# Altium integrated library Analog Devices Operational Amplifiers.IntLib: 2102 symbols (part 67 of 70)
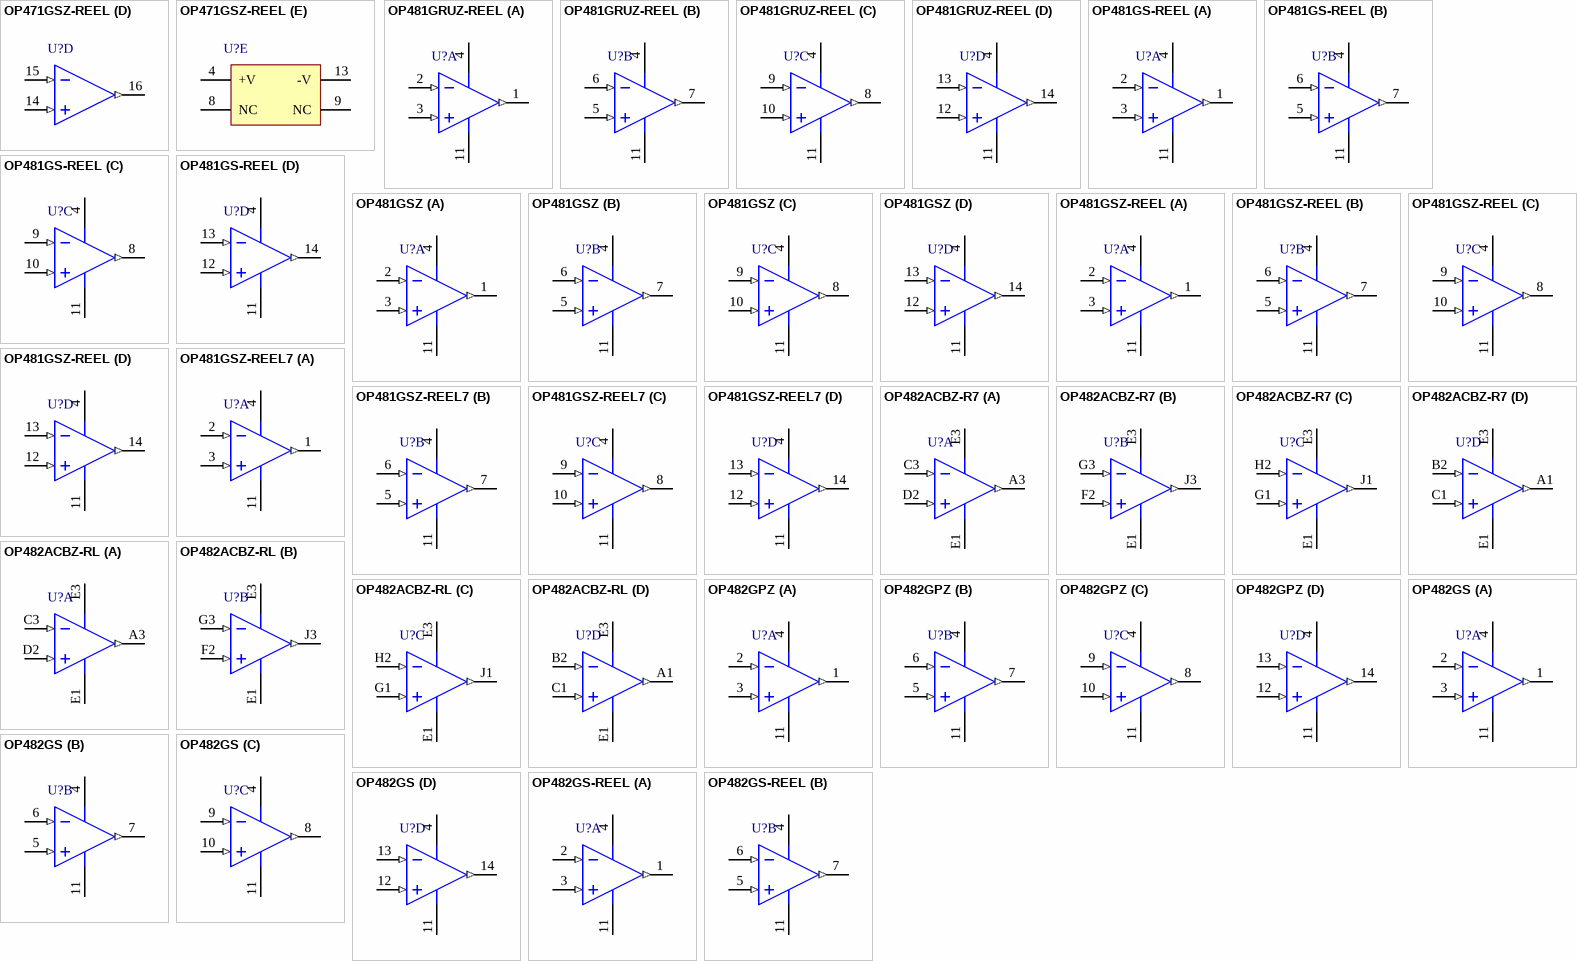
[diagram p180: symbols OP471GSZ-REEL to OP482GS-REEL]

## OP482GPZ
designator U?
Quad Channel Wide Bandwidth Operational Amplifier, 4 MHz BW, 9 V/us SR, Industrial, 14-pin DIP (N-14), Tube; Generic Part Number: OP482; Manufacturer: Analog Devices; PartNumber: OP482GPZ; Amplifiers Per Package: 4; Input Bias Current: 3pA; Input Offset Voltage: 200uV; Iq/Amp: 250uA; Slew Rate: 9V/us; Small Signal Bandwidth: 4MHz; V Span Max: 36V; V Span Min: 9V; DatasheetVersion: 081709-B; PackageVersion: 070606-A; PackageReference: N-14; PackageDescription: 14-Pin Plastic Dual In-Line Package, Row spacing 7.62 mm, Pitch 2.54 mm; Supplier 1: Digi-Key; Supplier Part Number 1: OP482GPZ-ND; Supplier 2: Farnell; Supplier Part Number 2: 1438690; Supplier 3: Newark; Supplier Part Number 3: 19M8988; Packing: Tube; Mounting Technology: Through Hole; Code_JEDEC: MS-001; ComponentLink1Description: Manufacturer URL; ComponentLink1URL: http://www.analog.com/en/index.html; ComponentLink2Description: Datasheet; ComponentLink2URL: http://www.analog.com/static/imported-files/data_sheets/OP282_OP482.pdf; ComponentLink3Description: Package Specification; ComponentLink3URL: http://www.analog.com/static/imported-files/packages/N_14.pdf
footprint ADI-N-14 (DIP, 14-Leads, Body 19.18x6.605mm, Pitch 2.54mm)
pins on every part: 4 +V (power), 11 -V (power)
part A pins: 1 OUT A (out), 2 -IN A (in), 3 +IN A (in)
part B pins: 5 +IN B (in), 6 -IN B (in), 7 OUT B (out)
part C pins: 8 OUT C (out), 9 -IN C (in), 10 +IN C (in)
part D pins: 12 +IN D (in), 13 -IN D (in), 14 OUT D (out)

## OP482GS
designator U?
Quad Channel Wide Bandwidth Operational Amplifier, 4 MHz BW, 9 V/us SR, Industrial, 14-pin SOIC (R-14), Tube; Generic Part Number: OP482; Manufacturer: Analog Devices; PartNumber: OP482GS; Amplifiers Per Package: 4; Input Bias Current: 3pA; Input Offset Voltage: 200uV; Iq/Amp: 250uA; Slew Rate: 9V/us; Small Signal Bandwidth: 4MHz; V Span Max: 36V; V Span Min: 9V; DatasheetVersion: 081709-B; PackageVersion: 060606-A; PackageReference: R-14; PackageDescription: 14-Pin Standard Small Outline Package, Body 8.65 x 3.9 mm, Pitch 1.27 mm; Supplier 1: Digi-Key; Supplier Part Number 1: OP482GS-ND; Packing: Tube; Mounting Technology: Surface Mount; Code_JEDEC: MS-012-AB; ComponentLink1Description: Manufacturer URL; ComponentLink1URL: http://www.analog.com/en/index.html; ComponentLink2Description: Datasheet; ComponentLink2URL: http://www.analog.com/static/imported-files/data_sheets/OP282_OP482.pdf; ComponentLink3Description: Package Specification; ComponentLink3URL: http://www.analog.com/static/imported-files/packages/PKG_PDF/SOIC_Narrow%20(R)/R_14.pdf
footprint ADI-R-14_N (SOIC, 14-Leads, Body 8.65x3.9mm, Pitch 1.27mm, IPC Medium Density)
footprint ADI-R-14_L (SOIC, 14-Leads, Body 8.65x3.9mm, Pitch 1.27mm, IPC High Density)
footprint ADI-R-14_M (SOIC, 14-Leads, Body 8.65x3.9mm, Pitch 1.27mm, IPC Low Density)
pins on every part: 4 +V (power), 11 -V (power)
part A pins: 1 OUT A (out), 2 -IN A (in), 3 +IN A (in)
part B pins: 5 +IN B (in), 6 -IN B (in), 7 OUT B (out)
part C pins: 8 OUT C (out), 9 -IN C (in), 10 +IN C (in)
part D pins: 12 +IN D (in), 13 -IN D (in), 14 OUT D (out)

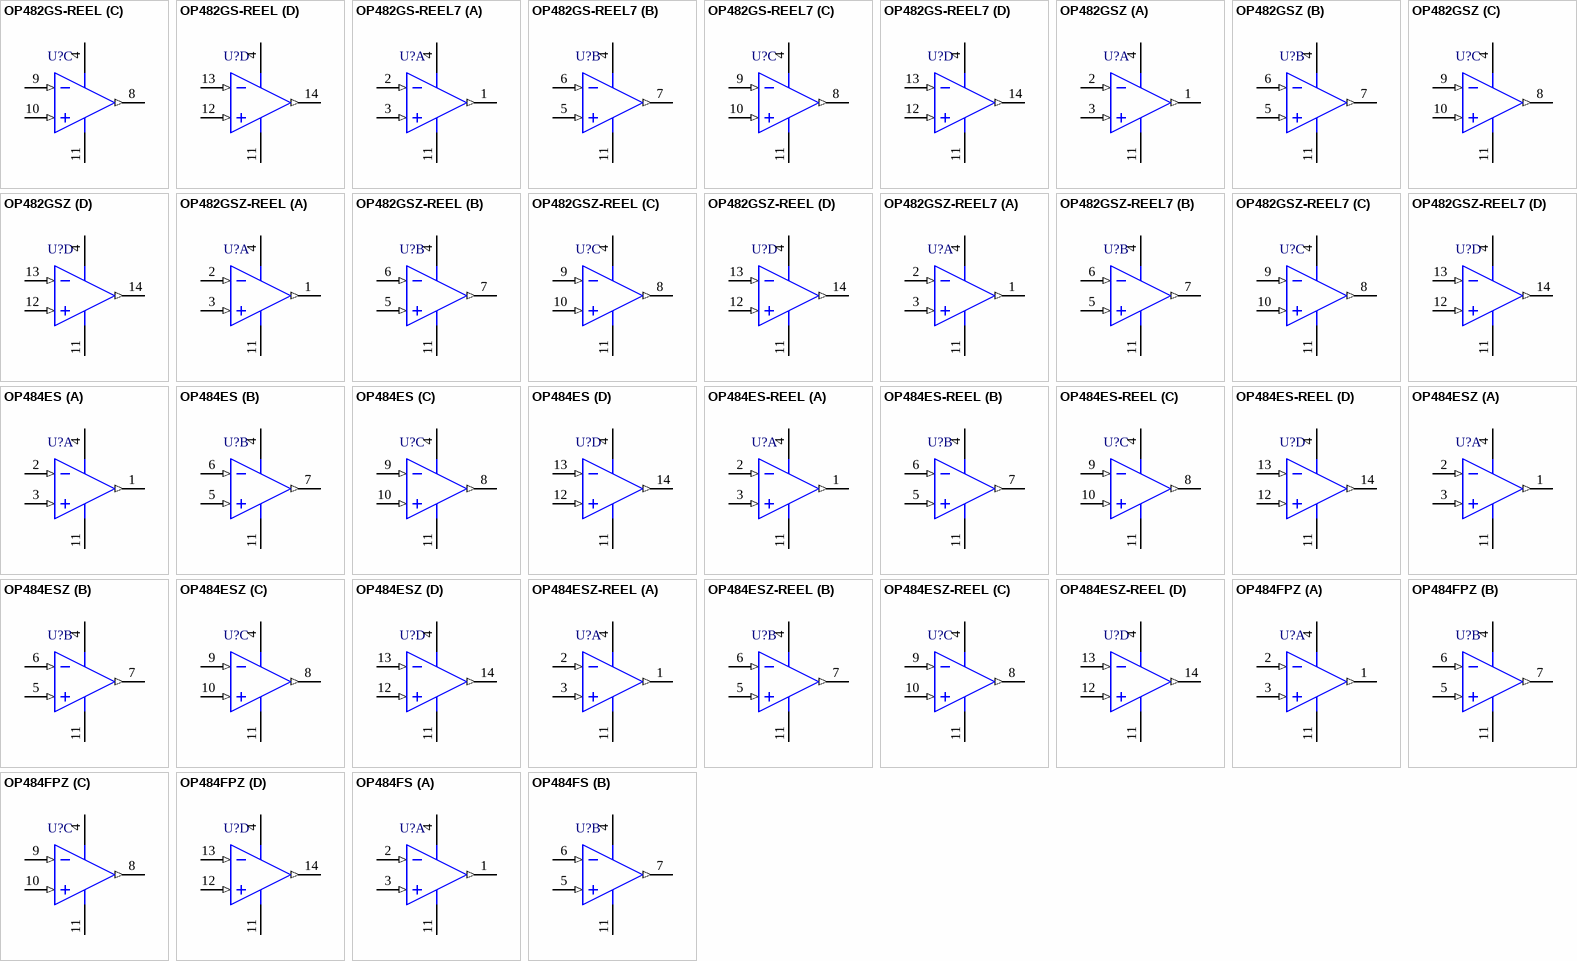
[diagram p106: symbols OP482GS-REEL to OP484FS]

## OP482GS-REEL
designator U?
Quad Channel Wide Bandwidth Operational Amplifier, 4 MHz BW, 9 V/us SR, Industrial, 14-pin SOIC (R-14), Reel; Generic Part Number: OP482; Manufacturer: Analog Devices; PartNumber: OP482GS-REEL; Amplifiers Per Package: 4; Input Bias Current: 3pA; Input Offset Voltage: 200uV; Iq/Amp: 250uA; Slew Rate: 9V/us; Small Signal Bandwidth: 4MHz; V Span Max: 36V; V Span Min: 9V; DatasheetVersion: 081709-B; PackageVersion: 060606-A; PackageReference: R-14; PackageDescription: 14-Pin Standard Small Outline Package, Body 8.65 x 3.9 mm, Pitch 1.27 mm; Supplier 1: Digi-Key; Supplier Part Number 1: OP482GS-REEL-ND; Supplier 2: Newark; Supplier Part Number 2: 13B4666; Packing: Reel; Mounting Technology: Surface Mount; Code_JEDEC: MS-012-AB; ComponentLink1Description: Manufacturer URL; ComponentLink1URL: http://www.analog.com/en/index.html; ComponentLink2Description: Datasheet; ComponentLink2URL: http://www.analog.com/static/imported-files/data_sheets/OP282_OP482.pdf; ComponentLink3Description: Package Specification; ComponentLink3URL: http://www.analog.com/static/imported-files/packages/PKG_PDF/SOIC_Narrow%20(R)/R_14.pdf
footprint ADI-R-14_N (SOIC, 14-Leads, Body 8.65x3.9mm, Pitch 1.27mm, IPC Medium Density)
footprint ADI-R-14_L (SOIC, 14-Leads, Body 8.65x3.9mm, Pitch 1.27mm, IPC High Density)
footprint ADI-R-14_M (SOIC, 14-Leads, Body 8.65x3.9mm, Pitch 1.27mm, IPC Low Density)
pins on every part: 4 +V (power), 11 -V (power)
part A pins: 1 OUT A (out), 2 -IN A (in), 3 +IN A (in)
part B pins: 5 +IN B (in), 6 -IN B (in), 7 OUT B (out)
part C pins: 8 OUT C (out), 9 -IN C (in), 10 +IN C (in)
part D pins: 12 +IN D (in), 13 -IN D (in), 14 OUT D (out)

## OP482GS-REEL7
designator U?
Quad Channel Wide Bandwidth Operational Amplifier, 4 MHz BW, 9 V/us SR, Industrial, 14-pin SOIC (R-14), Reel; Generic Part Number: OP482; Manufacturer: Analog Devices; PartNumber: OP482GS-REEL7; Amplifiers Per Package: 4; Input Bias Current: 3pA; Input Offset Voltage: 200uV; Iq/Amp: 250uA; Slew Rate: 9V/us; Small Signal Bandwidth: 4MHz; V Span Max: 36V; V Span Min: 9V; DatasheetVersion: 081709-B; PackageVersion: 060606-A; PackageReference: R-14; PackageDescription: 14-Pin Standard Small Outline Package, Body 8.65 x 3.9 mm, Pitch 1.27 mm; Supplier 1: Digi-Key; Supplier Part Number 1: OP482GS-REEL7-ND; Supplier 2: Newark; Supplier Part Number 2: 02H2607; Packing: Reel; Mounting Technology: Surface Mount; Code_JEDEC: MS-012-AB; ComponentLink1Description: Manufacturer URL; ComponentLink1URL: http://www.analog.com/en/index.html; ComponentLink2Description: Datasheet; ComponentLink2URL: http://www.analog.com/static/imported-files/data_sheets/OP282_OP482.pdf; ComponentLink3Description: Package Specification; ComponentLink3URL: http://www.analog.com/static/imported-files/packages/PKG_PDF/SOIC_Narrow%20(R)/R_14.pdf
footprint ADI-R-14_N (SOIC, 14-Leads, Body 8.65x3.9mm, Pitch 1.27mm, IPC Medium Density)
footprint ADI-R-14_L (SOIC, 14-Leads, Body 8.65x3.9mm, Pitch 1.27mm, IPC High Density)
footprint ADI-R-14_M (SOIC, 14-Leads, Body 8.65x3.9mm, Pitch 1.27mm, IPC Low Density)
pins on every part: 4 +V (power), 11 -V (power)
part A pins: 1 OUT A (out), 2 -IN A (in), 3 +IN A (in)
part B pins: 5 +IN B (in), 6 -IN B (in), 7 OUT B (out)
part C pins: 8 OUT C (out), 9 -IN C (in), 10 +IN C (in)
part D pins: 12 +IN D (in), 13 -IN D (in), 14 OUT D (out)

## OP482GSZ
designator U?
Quad Channel Wide Bandwidth Operational Amplifier, 4 MHz BW, 9 V/us SR, Industrial, 14-pin SOIC (R-14), Tube; Generic Part Number: OP482; Manufacturer: Analog Devices; PartNumber: OP482GSZ; Amplifiers Per Package: 4; Input Bias Current: 3pA; Input Offset Voltage: 200uV; Iq/Amp: 250uA; Slew Rate: 9V/us; Small Signal Bandwidth: 4MHz; V Span Max: 36V; V Span Min: 9V; DatasheetVersion: 081709-B; PackageVersion: 060606-A; PackageReference: R-14; PackageDescription: 14-Pin Standard Small Outline Package, Body 8.65 x 3.9 mm, Pitch 1.27 mm; Supplier 1: Digi-Key; Supplier Part Number 1: OP482GSZ-ND; Supplier 2: Farnell; Supplier Part Number 2: 1661006; Supplier 3: Newark; Supplier Part Number 3: 88H0669; Packing: Tube; Mounting Technology: Surface Mount; Code_JEDEC: MS-012-AB; ComponentLink1Description: Manufacturer URL; ComponentLink1URL: http://www.analog.com/en/index.html; ComponentLink2Description: Datasheet; ComponentLink2URL: http://www.analog.com/static/imported-files/data_sheets/OP282_OP482.pdf; ComponentLink3Description: Package Specification; ComponentLink3URL: http://www.analog.com/static/imported-files/packages/PKG_PDF/SOIC_Narrow%20(R)/R_14.pdf
footprint ADI-R-14_N (SOIC, 14-Leads, Body 8.65x3.9mm, Pitch 1.27mm, IPC Medium Density)
footprint ADI-R-14_L (SOIC, 14-Leads, Body 8.65x3.9mm, Pitch 1.27mm, IPC High Density)
footprint ADI-R-14_M (SOIC, 14-Leads, Body 8.65x3.9mm, Pitch 1.27mm, IPC Low Density)
pins on every part: 4 +V (power), 11 -V (power)
part A pins: 1 OUT A (out), 2 -IN A (in), 3 +IN A (in)
part B pins: 5 +IN B (in), 6 -IN B (in), 7 OUT B (out)
part C pins: 8 OUT C (out), 9 -IN C (in), 10 +IN C (in)
part D pins: 12 +IN D (in), 13 -IN D (in), 14 OUT D (out)

## OP482GSZ-REEL
designator U?
Quad Channel Wide Bandwidth Operational Amplifier, 4 MHz BW, 9 V/us SR, Industrial, 14-pin SOIC (R-14), Reel; Generic Part Number: OP482; Manufacturer: Analog Devices; PartNumber: OP482GSZ-REEL; Amplifiers Per Package: 4; Input Bias Current: 3pA; Input Offset Voltage: 200uV; Iq/Amp: 250uA; Slew Rate: 9V/us; Small Signal Bandwidth: 4MHz; V Span Max: 36V; V Span Min: 9V; DatasheetVersion: 081709-B; PackageVersion: 060606-A; PackageReference: R-14; PackageDescription: 14-Pin Standard Small Outline Package, Body 8.65 x 3.9 mm, Pitch 1.27 mm; Supplier 1: Digi-Key; Supplier Part Number 1: OP482GSZ-REELTR-ND; Supplier 2: Digi-Key; Supplier Part Number 2: OP482GSZ-REELCT-ND; Supplier 3: Digi-Key; Supplier Part Number 3: OP482GSZ-REELDKR-ND; Supplier 4: Newark; Supplier Part Number 4: 88H0670; Packing: Reel; Mounting Technology: Surface Mount; Code_JEDEC: MS-012-AB; ComponentLink1Description: Manufacturer URL; ComponentLink1URL: http://www.analog.com/en/index.html; ComponentLink2Description: Datasheet; ComponentLink2URL: http://www.analog.com/static/imported-files/data_sheets/OP282_OP482.pdf; ComponentLink3Description: Package Specification; ComponentLink3URL: http://www.analog.com/static/imported-files/packages/PKG_PDF/SOIC_Narrow%20(R)/R_14.pdf
footprint ADI-R-14_N (SOIC, 14-Leads, Body 8.65x3.9mm, Pitch 1.27mm, IPC Medium Density)
footprint ADI-R-14_L (SOIC, 14-Leads, Body 8.65x3.9mm, Pitch 1.27mm, IPC High Density)
footprint ADI-R-14_M (SOIC, 14-Leads, Body 8.65x3.9mm, Pitch 1.27mm, IPC Low Density)
pins on every part: 4 +V (power), 11 -V (power)
part A pins: 1 OUT A (out), 2 -IN A (in), 3 +IN A (in)
part B pins: 5 +IN B (in), 6 -IN B (in), 7 OUT B (out)
part C pins: 8 OUT C (out), 9 -IN C (in), 10 +IN C (in)
part D pins: 12 +IN D (in), 13 -IN D (in), 14 OUT D (out)

## OP482GSZ-REEL7
designator U?
Quad Channel Wide Bandwidth Operational Amplifier, 4 MHz BW, 9 V/us SR, Industrial, 14-pin SOIC (R-14), Reel; Generic Part Number: OP482; Manufacturer: Analog Devices; PartNumber: OP482GSZ-REEL7; Amplifiers Per Package: 4; Input Bias Current: 3pA; Input Offset Voltage: 200uV; Iq/Amp: 250uA; Slew Rate: 9V/us; Small Signal Bandwidth: 4MHz; V Span Max: 36V; V Span Min: 9V; DatasheetVersion: 081709-B; PackageVersion: 060606-A; PackageReference: R-14; PackageDescription: 14-Pin Standard Small Outline Package, Body 8.65 x 3.9 mm, Pitch 1.27 mm; Supplier 1: Digi-Key; Supplier Part Number 1: OP482GSZ-REEL7TR-ND; Supplier 2: Digi-Key; Supplier Part Number 2: OP482GSZ-REEL7CT-ND; Supplier 3: Digi-Key; Supplier Part Number 3: OP482GSZ-REEL7DKR-ND; Supplier 4: Newark; Supplier Part Number 4: 88H0671; Packing: Reel; Mounting Technology: Surface Mount; Code_JEDEC: MS-012-AB; ComponentLink1Description: Manufacturer URL; ComponentLink1URL: http://www.analog.com/en/index.html; ComponentLink2Description: Datasheet; ComponentLink2URL: http://www.analog.com/static/imported-files/data_sheets/OP282_OP482.pdf; ComponentLink3Description: Package Specification; ComponentLink3URL: http://www.analog.com/static/imported-files/packages/PKG_PDF/SOIC_Narrow%20(R)/R_14.pdf
footprint ADI-R-14_N (SOIC, 14-Leads, Body 8.65x3.9mm, Pitch 1.27mm, IPC Medium Density)
footprint ADI-R-14_L (SOIC, 14-Leads, Body 8.65x3.9mm, Pitch 1.27mm, IPC High Density)
footprint ADI-R-14_M (SOIC, 14-Leads, Body 8.65x3.9mm, Pitch 1.27mm, IPC Low Density)
pins on every part: 4 +V (power), 11 -V (power)
part A pins: 1 OUT A (out), 2 -IN A (in), 3 +IN A (in)
part B pins: 5 +IN B (in), 6 -IN B (in), 7 OUT B (out)
part C pins: 8 OUT C (out), 9 -IN C (in), 10 +IN C (in)
part D pins: 12 +IN D (in), 13 -IN D (in), 14 OUT D (out)

## OP484ES
designator U?
Quad Channel Rail-to-Rail Operational Amplifier, 4.25 MHz BW, 4 V/us SR, Industrial, 14-pin SOIC (R-14),Tube; Generic Part Number: OP484; Manufacturer: Analog Devices; PartNumber: OP484ES; Amplifiers Per Package: 4; Input Bias Current: 80nA; Input Offset Voltage: 250uV; Iq/Amp: 2mA; Slew Rate: 4V/us; V Span Max: 36V; V Span Min: 3V; DatasheetVersion: Rev. J; PackageVersion: 060606-A; PackageReference: R-14; PackageDescription: 14-Pin Standard Small Outline Package, Body 8.65 x 3.9 mm, Pitch 1.27 mm; Supplier 1: Digi-Key; Supplier Part Number 1: OP484ES-ND; Supplier 2: Newark; Supplier Part Number 2: 52F2080; Small Signal Bandwidth: 4.25MHz; Mounting Technology: Surface Mount; Code_JEDEC: MS-012-AB; ComponentLink1Description: Manufacturer URL; ComponentLink1URL: http://www.analog.com/en/index.html; ComponentLink2Description: Datasheet; ComponentLink2URL: http://www.analog.com/static/imported-files/data_sheets/OP184_284_484.pdf; ComponentLink3Description: Package Specification; ComponentLink3URL: http://www.analog.com/static/imported-files/packages/PKG_PDF/SOIC_Narrow%20(R)/R_14.pdf
footprint ADI-R-14_N (SOIC, 14-Leads, Body 8.65x3.9mm, Pitch 1.27mm, IPC Medium Density)
footprint ADI-R-14_L (SOIC, 14-Leads, Body 8.65x3.9mm, Pitch 1.27mm, IPC High Density)
footprint ADI-R-14_M (SOIC, 14-Leads, Body 8.65x3.9mm, Pitch 1.27mm, IPC Low Density)
pins on every part: 4 +V (power), 11 -V (power)
part A pins: 1 OUT A (out), 2 -IN A (in), 3 +IN A (in)
part B pins: 5 +IN B (in), 6 -IN B (in), 7 OUT B (out)
part C pins: 8 OUT C (out), 9 -IN C (in), 10 +IN C (in)
part D pins: 12 +IN D (in), 13 -IN D (in), 14 OUT D (out)

## OP484ES-REEL
designator U?
Quad Channel Rail-to-Rail Operational Amplifier, 4.25 MHz BW, 4 V/us SR, Industrial, 14-pin SOIC (R-14), Reel; Generic Part Number: OP484; Manufacturer: Analog Devices; PartNumber: OP484ES-REEL; Amplifiers Per Package: 4; Input Bias Current: 80nA; Input Offset Voltage: 250uV; Iq/Amp: 2mA; Slew Rate: 4V/us; V Span Max: 36V; V Span Min: 3V; DatasheetVersion: Rev. J; PackageVersion: 060606-A; PackageReference: R-14; PackageDescription: 14-Pin Standard Small Outline Package, Body 8.65 x 3.9 mm, Pitch 1.27 mm; Supplier 1: Digi-Key; Supplier Part Number 1: OP484ES-REEL-ND; Supplier 2: Newark; Supplier Part Number 2: 13B4667; Small Signal Bandwidth: 4.25MHz; Mounting Technology: Surface Mount; Code_JEDEC: MS-012-AB; ComponentLink1Description: Manufacturer URL; ComponentLink1URL: http://www.analog.com/en/index.html; ComponentLink2Description: Datasheet; ComponentLink2URL: http://www.analog.com/static/imported-files/data_sheets/OP184_284_484.pdf; ComponentLink3Description: Package Specification; ComponentLink3URL: http://www.analog.com/static/imported-files/packages/PKG_PDF/SOIC_Narrow%20(R)/R_14.pdf
footprint ADI-R-14_N (SOIC, 14-Leads, Body 8.65x3.9mm, Pitch 1.27mm, IPC Medium Density)
footprint ADI-R-14_L (SOIC, 14-Leads, Body 8.65x3.9mm, Pitch 1.27mm, IPC High Density)
footprint ADI-R-14_M (SOIC, 14-Leads, Body 8.65x3.9mm, Pitch 1.27mm, IPC Low Density)
pins on every part: 4 +V (power), 11 -V (power)
part A pins: 1 OUT A (out), 2 -IN A (in), 3 +IN A (in)
part B pins: 5 +IN B (in), 6 -IN B (in), 7 OUT B (out)
part C pins: 8 OUT C (out), 9 -IN C (in), 10 +IN C (in)
part D pins: 12 +IN D (in), 13 -IN D (in), 14 OUT D (out)

## OP484ESZ
designator U?
Quad Channel Rail-to-Rail Operational Amplifier, 4.25 MHz BW, 4 V/us SR, Industrial, 14-pin SOIC (R-14), Tube; Generic Part Number: OP484; Manufacturer: Analog Devices; PartNumber: OP484ESZ; Amplifiers Per Package: 4; Input Bias Current: 80nA; Input Offset Voltage: 250uV; Iq/Amp: 2mA; Slew Rate: 4V/us; V Span Max: 36V; V Span Min: 3V; DatasheetVersion: Rev. J; PackageVersion: 060606-A; PackageReference: R-14; PackageDescription: 14-Pin Standard Small Outline Package, Body 8.65 x 3.9 mm, Pitch 1.27 mm; Supplier 1: Digi-Key; Supplier Part Number 1: OP484ESZ-ND; Supplier 2: Farnell; Supplier Part Number 2: 1661007; Supplier 3: Newark; Supplier Part Number 3: 19M8989; Small Signal Bandwidth: 4.25MHz; Mounting Technology: Surface Mount; Code_JEDEC: MS-012-AB; ComponentLink1Description: Manufacturer URL; ComponentLink1URL: http://www.analog.com/en/index.html; ComponentLink2Description: Datasheet; ComponentLink2URL: http://www.analog.com/static/imported-files/data_sheets/OP184_284_484.pdf; ComponentLink3Description: Package Specification; ComponentLink3URL: http://www.analog.com/static/imported-files/packages/PKG_PDF/SOIC_Narrow%20(R)/R_14.pdf
footprint ADI-R-14_N (SOIC, 14-Leads, Body 8.65x3.9mm, Pitch 1.27mm, IPC Medium Density)
footprint ADI-R-14_L (SOIC, 14-Leads, Body 8.65x3.9mm, Pitch 1.27mm, IPC High Density)
footprint ADI-R-14_M (SOIC, 14-Leads, Body 8.65x3.9mm, Pitch 1.27mm, IPC Low Density)
pins on every part: 4 +V (power), 11 -V (power)
part A pins: 1 OUT A (out), 2 -IN A (in), 3 +IN A (in)
part B pins: 5 +IN B (in), 6 -IN B (in), 7 OUT B (out)
part C pins: 8 OUT C (out), 9 -IN C (in), 10 +IN C (in)
part D pins: 12 +IN D (in), 13 -IN D (in), 14 OUT D (out)

## OP484ESZ-REEL
designator U?
Quad Channel Rail-to-Rail Operational Amplifier, 4.25 MHz BW, 4 V/us SR, Industrial, 14-pin SOIC (R-14), Reel; Generic Part Number: OP484; Manufacturer: Analog Devices; PartNumber: OP484ESZ-REEL; Amplifiers Per Package: 4; Input Bias Current: 80nA; Input Offset Voltage: 250uV; Iq/Amp: 2mA; Slew Rate: 4V/us; V Span Max: 36V; V Span Min: 3V; DatasheetVersion: Rev. J; PackageVersion: 060606-A; PackageReference: R-14; PackageDescription: 14-Pin Standard Small Outline Package, Body 8.65 x 3.9 mm, Pitch 1.27 mm; Supplier 1: Digi-Key; Supplier Part Number 1: OP484ESZ-REEL-ND; Supplier 2: Newark; Supplier Part Number 2: 88H0673; Small Signal Bandwidth: 4.25MHz; Mounting Technology: Surface Mount; Code_JEDEC: MS-012-AB; ComponentLink1Description: Manufacturer URL; ComponentLink1URL: http://www.analog.com/en/index.html; ComponentLink2Description: Datasheet; ComponentLink2URL: http://www.analog.com/static/imported-files/data_sheets/OP184_284_484.pdf; ComponentLink3Description: Package Specification; ComponentLink3URL: http://www.analog.com/static/imported-files/packages/PKG_PDF/SOIC_Narrow%20(R)/R_14.pdf
footprint ADI-R-14_N (SOIC, 14-Leads, Body 8.65x3.9mm, Pitch 1.27mm, IPC Medium Density)
footprint ADI-R-14_L (SOIC, 14-Leads, Body 8.65x3.9mm, Pitch 1.27mm, IPC High Density)
footprint ADI-R-14_M (SOIC, 14-Leads, Body 8.65x3.9mm, Pitch 1.27mm, IPC Low Density)
pins on every part: 4 +V (power), 11 -V (power)
part A pins: 1 OUT A (out), 2 -IN A (in), 3 +IN A (in)
part B pins: 5 +IN B (in), 6 -IN B (in), 7 OUT B (out)
part C pins: 8 OUT C (out), 9 -IN C (in), 10 +IN C (in)
part D pins: 12 +IN D (in), 13 -IN D (in), 14 OUT D (out)

## OP484FPZ
designator U?
Quad Channel Rail-to-Rail Operational Amplifier, 4.25 MHz BW, 4 V/us SR, Industrial, 14-pin DIP (N-14), Tube; Generic Part Number: OP484; Manufacturer: Analog Devices; PartNumber: OP484FPZ; Amplifiers Per Package: 4; Input Bias Current: 80nA; Input Offset Voltage: 250uV; Iq/Amp: 2mA; Slew Rate: 4V/us; V Span Max: 36V; V Span Min: 3V; DatasheetVersion: Rev. J; PackageVersion: 070606-A; PackageReference: N-14; PackageDescription: 14-Pin Plastic Dual In-Line Package, Row spacing 7.62 mm, Pitch 2.54 mm; Supplier 1: Digi-Key; Supplier Part Number 1: OP484FPZ-ND; Supplier 2: Farnell; Supplier Part Number 2: 1438692; Supplier 3: Newark; Supplier Part Number 3: 59K8936; Small Signal Bandwidth: 4.25MHz; Mounting Technology: Through Hole; Code_JEDEC: MS-001; ComponentLink1Description: Manufacturer URL; ComponentLink1URL: http://www.analog.com/en/index.html; ComponentLink2Description: Datasheet; ComponentLink2URL: http://www.analog.com/static/imported-files/data_sheets/OP184_284_484.pdf; ComponentLink3Description: Package Specification; ComponentLink3URL: http://www.analog.com/static/imported-files/packages/N_14.pdf
footprint ADI-N-14 (DIP, 14-Leads, Body 19.18x6.605mm, Pitch 2.54mm)
pins on every part: 4 +V (power), 11 -V (power)
part A pins: 1 OUT A (out), 2 -IN A (in), 3 +IN A (in)
part B pins: 5 +IN B (in), 6 -IN B (in), 7 OUT B (out)
part C pins: 8 OUT C (out), 9 -IN C (in), 10 +IN C (in)
part D pins: 12 +IN D (in), 13 -IN D (in), 14 OUT D (out)

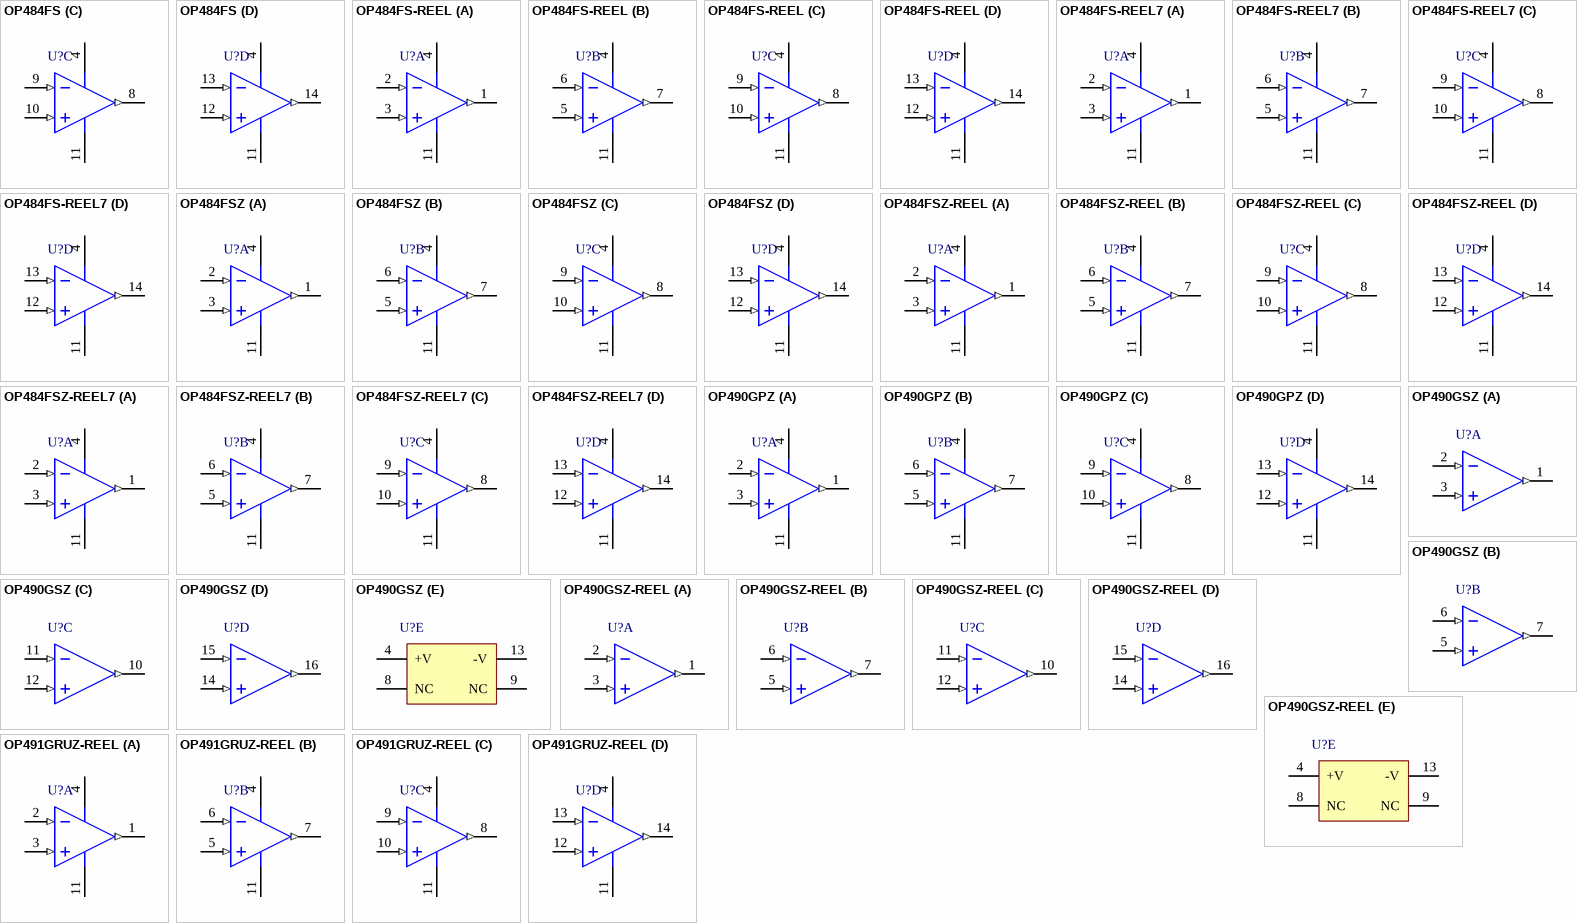
[diagram p107: symbols OP484FS to OP491GRUZ-REEL]

## OP484FS
designator U?
Quad Channel Rail-to-Rail Operational Amplifier, 4.25 MHz BW, 4 V/us SR, Industrial, 14-pin SOIC (R-14), Tube; Generic Part Number: OP484; Manufacturer: Analog Devices; PartNumber: OP484FS; Amplifiers Per Package: 4; Input Bias Current: 80nA; Input Offset Voltage: 250uV; Iq/Amp: 2mA; Slew Rate: 4V/us; V Span Max: 36V; V Span Min: 3V; DatasheetVersion: Rev. J; PackageVersion: 060606-A; PackageReference: R-14; PackageDescription: 14-Pin Standard Small Outline Package, Body 8.65 x 3.9 mm, Pitch 1.27 mm; Supplier 1: Digi-Key; Supplier Part Number 1: OP484FS-ND; Small Signal Bandwidth: 4.25MHz; Mounting Technology: Surface Mount; Code_JEDEC: MS-012-AB; ComponentLink1Description: Manufacturer URL; ComponentLink1URL: http://www.analog.com/en/index.html; ComponentLink2Description: Datasheet; ComponentLink2URL: http://www.analog.com/static/imported-files/data_sheets/OP184_284_484.pdf; ComponentLink3Description: Package Specification; ComponentLink3URL: http://www.analog.com/static/imported-files/packages/PKG_PDF/SOIC_Narrow%20(R)/R_14.pdf
footprint ADI-R-14_N (SOIC, 14-Leads, Body 8.65x3.9mm, Pitch 1.27mm, IPC Medium Density)
footprint ADI-R-14_L (SOIC, 14-Leads, Body 8.65x3.9mm, Pitch 1.27mm, IPC High Density)
footprint ADI-R-14_M (SOIC, 14-Leads, Body 8.65x3.9mm, Pitch 1.27mm, IPC Low Density)
pins on every part: 4 +V (power), 11 -V (power)
part A pins: 1 OUT A (out), 2 -IN A (in), 3 +IN A (in)
part B pins: 5 +IN B (in), 6 -IN B (in), 7 OUT B (out)
part C pins: 8 OUT C (out), 9 -IN C (in), 10 +IN C (in)
part D pins: 12 +IN D (in), 13 -IN D (in), 14 OUT D (out)

## OP484FS-REEL
designator U?
Quad Channel Rail-to-Rail Operational Amplifier, 4.25 MHz BW, 4 V/us SR, Industrial, 14-pin SOIC (R-14), Reel; Generic Part Number: OP484; Manufacturer: Analog Devices; PartNumber: OP484FS-REEL; Amplifiers Per Package: 4; Input Bias Current: 80nA; Input Offset Voltage: 250uV; Iq/Amp: 2mA; Slew Rate: 4V/us; V Span Max: 36V; V Span Min: 3V; DatasheetVersion: Rev. J; PackageVersion: 060606-A; PackageReference: R-14; PackageDescription: 14-Pin Standard Small Outline Package, Body 8.65 x 3.9 mm, Pitch 1.27 mm; Supplier 1: Digi-Key; Supplier Part Number 1: OP484FS-REEL-ND; Supplier 2: Newark; Supplier Part Number 2: 13B4668; Small Signal Bandwidth: 4.25MHz; Mounting Technology: Surface Mount; Code_JEDEC: MS-012-AB; ComponentLink1Description: Manufacturer URL; ComponentLink1URL: http://www.analog.com/en/index.html; ComponentLink2Description: Datasheet; ComponentLink2URL: http://www.analog.com/static/imported-files/data_sheets/OP184_284_484.pdf; ComponentLink3Description: Package Specification; ComponentLink3URL: http://www.analog.com/static/imported-files/packages/PKG_PDF/SOIC_Narrow%20(R)/R_14.pdf
footprint ADI-R-14_N (SOIC, 14-Leads, Body 8.65x3.9mm, Pitch 1.27mm, IPC Medium Density)
footprint ADI-R-14_L (SOIC, 14-Leads, Body 8.65x3.9mm, Pitch 1.27mm, IPC High Density)
footprint ADI-R-14_M (SOIC, 14-Leads, Body 8.65x3.9mm, Pitch 1.27mm, IPC Low Density)
pins on every part: 4 +V (power), 11 -V (power)
part A pins: 1 OUT A (out), 2 -IN A (in), 3 +IN A (in)
part B pins: 5 +IN B (in), 6 -IN B (in), 7 OUT B (out)
part C pins: 8 OUT C (out), 9 -IN C (in), 10 +IN C (in)
part D pins: 12 +IN D (in), 13 -IN D (in), 14 OUT D (out)

## OP484FS-REEL7
designator U?
Quad Channel Rail-to-Rail Operational Amplifier, 4.25 MHz BW, 4 V/us SR, Industrial, 14-pin SOIC (R-14), Reel; Generic Part Number: OP484; Manufacturer: Analog Devices; PartNumber: OP484FS-REEL7; Amplifiers Per Package: 4; Input Bias Current: 80nA; Input Offset Voltage: 250uV; Iq/Amp: 2mA; Slew Rate: 4V/us; V Span Max: 36V; V Span Min: 3V; DatasheetVersion: Rev. J; PackageVersion: 060606-A; PackageReference: R-14; PackageDescription: 14-Pin Standard Small Outline Package, Body 8.65 x 3.9 mm, Pitch 1.27 mm; Supplier 1: Digi-Key; Supplier Part Number 1: OP484FS-REEL7TR-ND; Supplier 2: Digi-Key; Supplier Part Number 2: OP484FS-REEL7CT-ND; Supplier 3: Digi-Key; Supplier Part Number 3: OP484FS-REEL7DKR-ND; Supplier 4: Newark; Supplier Part Number 4: 13B4669; Small Signal Bandwidth: 4.25MHz; Mounting Technology: Surface Mount; Code_JEDEC: MS-012-AB; ComponentLink1Description: Manufacturer URL; ComponentLink1URL: http://www.analog.com/en/index.html; ComponentLink2Description: Datasheet; ComponentLink2URL: http://www.analog.com/static/imported-files/data_sheets/OP184_284_484.pdf; ComponentLink3Description: Package Specification; ComponentLink3URL: http://www.analog.com/static/imported-files/packages/PKG_PDF/SOIC_Narrow%20(R)/R_14.pdf
footprint ADI-R-14_N (SOIC, 14-Leads, Body 8.65x3.9mm, Pitch 1.27mm, IPC Medium Density)
footprint ADI-R-14_L (SOIC, 14-Leads, Body 8.65x3.9mm, Pitch 1.27mm, IPC High Density)
footprint ADI-R-14_M (SOIC, 14-Leads, Body 8.65x3.9mm, Pitch 1.27mm, IPC Low Density)
pins on every part: 4 +V (power), 11 -V (power)
part A pins: 1 OUT A (out), 2 -IN A (in), 3 +IN A (in)
part B pins: 5 +IN B (in), 6 -IN B (in), 7 OUT B (out)
part C pins: 8 OUT C (out), 9 -IN C (in), 10 +IN C (in)
part D pins: 12 +IN D (in), 13 -IN D (in), 14 OUT D (out)

## OP484FSZ
designator U?
Quad Channel Rail-to-Rail Operational Amplifier, 4.25 MHz BW, 4 V/us SR, Industrial, 14-pin SOIC (R-14), Tube; Generic Part Number: OP484; Manufacturer: Analog Devices; PartNumber: OP484FSZ; Amplifiers Per Package: 4; Input Bias Current: 80nA; Input Offset Voltage: 250uV; Iq/Amp: 2mA; Slew Rate: 4V/us; V Span Max: 36V; V Span Min: 3V; DatasheetVersion: Rev. J; PackageVersion: 060606-A; PackageReference: R-14; PackageDescription: 14-Pin Standard Small Outline Package, Body 8.65 x 3.9 mm, Pitch 1.27 mm; Supplier 1: Digi-Key; Supplier Part Number 1: OP484FSZ-ND; Supplier 2: Farnell; Supplier Part Number 2: 1439000; Supplier 3: Newark; Supplier Part Number 3: 59K8937; Small Signal Bandwidth: 4.25MHz; Mounting Technology: Surface Mount; Code_JEDEC: MS-012-AB; ComponentLink1Description: Manufacturer URL; ComponentLink1URL: http://www.analog.com/en/index.html; ComponentLink2Description: Datasheet; ComponentLink2URL: http://www.analog.com/static/imported-files/data_sheets/OP184_284_484.pdf; ComponentLink3Description: Package Specification; ComponentLink3URL: http://www.analog.com/static/imported-files/packages/PKG_PDF/SOIC_Narrow%20(R)/R_14.pdf
footprint ADI-R-14_N (SOIC, 14-Leads, Body 8.65x3.9mm, Pitch 1.27mm, IPC Medium Density)
footprint ADI-R-14_L (SOIC, 14-Leads, Body 8.65x3.9mm, Pitch 1.27mm, IPC High Density)
footprint ADI-R-14_M (SOIC, 14-Leads, Body 8.65x3.9mm, Pitch 1.27mm, IPC Low Density)
pins on every part: 4 +V (power), 11 -V (power)
part A pins: 1 OUT A (out), 2 -IN A (in), 3 +IN A (in)
part B pins: 5 +IN B (in), 6 -IN B (in), 7 OUT B (out)
part C pins: 8 OUT C (out), 9 -IN C (in), 10 +IN C (in)
part D pins: 12 +IN D (in), 13 -IN D (in), 14 OUT D (out)

## OP484FSZ-REEL
designator U?
Quad Channel Rail-to-Rail Operational Amplifier, 4.25 MHz BW, 4 V/us SR, Industrial, 14-pin SOIC (R-14), Reel; Generic Part Number: OP484; Manufacturer: Analog Devices; PartNumber: OP484FSZ-REEL; Amplifiers Per Package: 4; Input Bias Current: 80nA; Input Offset Voltage: 250uV; Iq/Amp: 2mA; Slew Rate: 4V/us; V Span Max: 36V; V Span Min: 3V; DatasheetVersion: Rev. J; PackageVersion: 060606-A; PackageReference: R-14; PackageDescription: 14-Pin Standard Small Outline Package, Body 8.65 x 3.9 mm, Pitch 1.27 mm; Supplier 1: Digi-Key; Supplier Part Number 1: OP484FSZ-REEL-ND; Supplier 2: Newark; Supplier Part Number 2: 59K8938; Small Signal Bandwidth: 4.25MHz; Mounting Technology: Surface Mount; Code_JEDEC: MS-012-AB; ComponentLink1Description: Manufacturer URL; ComponentLink1URL: http://www.analog.com/en/index.html; ComponentLink2Description: Datasheet; ComponentLink2URL: http://www.analog.com/static/imported-files/data_sheets/OP184_284_484.pdf; ComponentLink3Description: Package Specification; ComponentLink3URL: http://www.analog.com/static/imported-files/packages/PKG_PDF/SOIC_Narrow%20(R)/R_14.pdf
footprint ADI-R-14_N (SOIC, 14-Leads, Body 8.65x3.9mm, Pitch 1.27mm, IPC Medium Density)
footprint ADI-R-14_L (SOIC, 14-Leads, Body 8.65x3.9mm, Pitch 1.27mm, IPC High Density)
footprint ADI-R-14_M (SOIC, 14-Leads, Body 8.65x3.9mm, Pitch 1.27mm, IPC Low Density)
pins on every part: 4 +V (power), 11 -V (power)
part A pins: 1 OUT A (out), 2 -IN A (in), 3 +IN A (in)
part B pins: 5 +IN B (in), 6 -IN B (in), 7 OUT B (out)
part C pins: 8 OUT C (out), 9 -IN C (in), 10 +IN C (in)
part D pins: 12 +IN D (in), 13 -IN D (in), 14 OUT D (out)

## OP484FSZ-REEL7
designator U?
Quad Channel Rail-to-Rail Operational Amplifier, 4.25 MHz BW, 4 V/us SR, Industrial, 14-pin SOIC (R-14), Reel; Generic Part Number: OP484; Manufacturer: Analog Devices; PartNumber: OP484FSZ-REEL7; Amplifiers Per Package: 4; Input Bias Current: 80nA; Input Offset Voltage: 250uV; Iq/Amp: 2mA; Slew Rate: 4V/us; V Span Max: 36V; V Span Min: 3V; DatasheetVersion: Rev. J; PackageVersion: 060606-A; PackageReference: R-14; PackageDescription: 14-Pin Standard Small Outline Package, Body 8.65 x 3.9 mm, Pitch 1.27 mm; Supplier 1: Digi-Key; Supplier Part Number 1: OP484FSZ-REEL7TR-ND; Supplier 2: Digi-Key; Supplier Part Number 2: OP484FSZ-REEL7CT-ND; Supplier 3: Digi-Key; Supplier Part Number 3: OP484FSZ-REEL7DKR-ND; Supplier 4: Newark; Supplier Part Number 4: 59K8939; Small Signal Bandwidth: 4.25MHz; Mounting Technology: Surface Mount; Code_JEDEC: MS-012-AB; ComponentLink1Description: Manufacturer URL; ComponentLink1URL: http://www.analog.com/en/index.html; ComponentLink2Description: Datasheet; ComponentLink2URL: http://www.analog.com/static/imported-files/data_sheets/OP184_284_484.pdf; ComponentLink3Description: Package Specification; ComponentLink3URL: http://www.analog.com/static/imported-files/packages/PKG_PDF/SOIC_Narrow%20(R)/R_14.pdf
footprint ADI-R-14_N (SOIC, 14-Leads, Body 8.65x3.9mm, Pitch 1.27mm, IPC Medium Density)
footprint ADI-R-14_L (SOIC, 14-Leads, Body 8.65x3.9mm, Pitch 1.27mm, IPC High Density)
footprint ADI-R-14_M (SOIC, 14-Leads, Body 8.65x3.9mm, Pitch 1.27mm, IPC Low Density)
pins on every part: 4 +V (power), 11 -V (power)
part A pins: 1 OUT A (out), 2 -IN A (in), 3 +IN A (in)
part B pins: 5 +IN B (in), 6 -IN B (in), 7 OUT B (out)
part C pins: 8 OUT C (out), 9 -IN C (in), 10 +IN C (in)
part D pins: 12 +IN D (in), 13 -IN D (in), 14 OUT D (out)

## OP490GPZ
designator U?
Quad Channel Single-Supply Operation Operational Amplifier, 20 KHz BW, 12 mV/us SR, Industrial, 14-pin DIP (N-14), Tube; Generic Part Number: OP490; Manufacturer: Analog Devices; PartNumber: OP490GPZ; Amplifiers Per Package: 4; Input Bias Current: 4.2nA; Input Offset Voltage: 600uV; Iq/Amp: 20uA; Small Signal Bandwidth: 20KHz; V Span Max: 36V; V Span Min: 3V; DatasheetVersion: Rev. E; PackageVersion: 070606-A; PackageReference: N-14; PackageDescription: 14-Pin Plastic Dual In-Line Package, Row spacing 7.62 mm, Pitch 2.54 mm; Supplier 1: Digi-Key; Supplier Part Number 1: OP490GPZ-ND; Supplier 2: Farnell; Supplier Part Number 2: 9604812; Supplier 3: Newark; Supplier Part Number 3: 59K8940; Packing: Tube; Slew Rate: 12mV/us; Mounting Technology: Through Hole; Code_JEDEC: MS-001; ComponentLink1Description: Manufacturer URL; ComponentLink1URL: http://www.analog.com/en/index.html; ComponentLink2Description: Datasheet; ComponentLink2URL: http://www.analog.com/static/imported-files/data_sheets/OP490.pdf; ComponentLink3Description: Package Specification; ComponentLink3URL: http://www.analog.com/static/imported-files/packages/N_14.pdf
footprint ADI-N-14 (DIP, 14-Leads, Body 19.18x6.605mm, Pitch 2.54mm)
pins on every part: 4 +V (power), 11 -V (power)
part A pins: 1 OUT A (out), 2 -IN A (in), 3 +IN A (in)
part B pins: 5 +IN B (in), 6 -IN B (in), 7 OUT B (out)
part C pins: 8 OUT C (out), 9 -IN C (in), 10 +IN C (in)
part D pins: 12 +IN D (in), 13 -IN D (in), 14 OUT D (out)

## OP490GSZ
designator U?
Quad Channel Single-Supply Operation Operational Amplifier, 20 KHz BW, 12 mV/us SR, Industrial, 16-pin SOIC (RW-16), Tube; Generic Part Number: OP490; Manufacturer: Analog Devices; PartNumber: OP490GSZ; Amplifiers Per Package: 4; Input Bias Current: 4.2nA; Input Offset Voltage: 600uV; Iq/Amp: 20uA; Small Signal Bandwidth: 20KHz; V Span Max: 36V; V Span Min: 3V; DatasheetVersion: Rev. E; PackageVersion: 032707-B; PackageReference: RW-16; PackageDescription: 16-Pin Standard Small Outline Package, Body 10.3 x 7.5 mm, Pitch 1.27 mm; Supplier 1: Digi-Key; Supplier Part Number 1: OP490GSZ-ND; Supplier 2: Farnell; Supplier Part Number 2: 9604820; Supplier 3: Newark; Supplier Part Number 3: 59K8942; Packing: Tube; Slew Rate: 12mV/us; Mounting Technology: Surface Mount; Code_JEDEC: MS-013-AA; ComponentLink1Description: Manufacturer URL; ComponentLink1URL: http://www.analog.com/en/index.html; ComponentLink2Description: Datasheet; ComponentLink2URL: http://www.analog.com/static/imported-files/data_sheets/OP490.pdf; ComponentLink3Description: Package Specification; ComponentLink3URL: http://www.analog.com/static/imported-files/packages/PKG_PDF/SOIC_WIDE%20%28RW%29/RW_16.pdf
footprint ADI-RW-16_N (SOIC, 16-Leads, Body 10.3x7.5mm, Pitch 1.27mm,IPC Medium Density)
footprint ADI-RW-16_L (SOIC, 16-Leads, Body 10.3x7.5mm, Pitch 1.27mm, IPC High Density)
footprint ADI-RW-16_M (SOIC, 16-Leads, Body 10.3x7.5mm, Pitch 1.27mm, IPC Low Density)
part A pins: 1 OUT A (out), 2 -IN A (in), 3 +IN A (in)
part B pins: 5 +IN B (in), 6 -IN B (in), 7 OUT B (out)
part C pins: 10 OUT C (out), 11 -IN C (in), 12 +IN C (in)
part D pins: 14 +IN D (in), 15 -IN D (in), 16 OUT D (out)
part E pins: 4 +V (power), 8 NC, 9 NC, 13 -V (power)

## OP490GSZ-REEL
designator U?
Quad Channel Single-Supply Operation Operational Amplifier, 20 KHz BW, 12 mV/us SR, Industrial, 16-pin SOIC (RW-16), Reel; Generic Part Number: OP490; Manufacturer: Analog Devices; PartNumber: OP490GSZ-REEL; Amplifiers Per Package: 4; Input Bias Current: 4.2nA; Input Offset Voltage: 600uV; Iq/Amp: 20uA; Small Signal Bandwidth: 20KHz; V Span Max: 36V; V Span Min: 3V; DatasheetVersion: Rev. E; PackageVersion: 032707-B; PackageReference: RW-16; PackageDescription: 16-Pin Standard Small Outline Package, Body 10.3 x 7.5 mm, Pitch 1.27 mm; Supplier 1: Digi-Key; Supplier Part Number 1: OP490GSZ-REELTR-ND; Supplier 2: Digi-Key; Supplier Part Number 2: OP490GSZ-REELCT-ND; Supplier 3: Digi-Key; Supplier Part Number 3: OP490GSZ-REELDKR-ND; Supplier 4: Newark; Supplier Part Number 4: 59K8943; Packing: Reel; Slew Rate: 12mV/us; Mounting Technology: Surface Mount; Code_JEDEC: MS-013-AA; ComponentLink1Description: Manufacturer URL; ComponentLink1URL: http://www.analog.com/en/index.html; ComponentLink2Description: Datasheet; ComponentLink2URL: http://www.analog.com/static/imported-files/data_sheets/OP490.pdf; ComponentLink3Description: Package Specification; ComponentLink3URL: http://www.analog.com/static/imported-files/packages/PKG_PDF/SOIC_WIDE%20%28RW%29/RW_16.pdf
footprint ADI-RW-16_N (SOIC, 16-Leads, Body 10.3x7.5mm, Pitch 1.27mm,IPC Medium Density)
footprint ADI-RW-16_L (SOIC, 16-Leads, Body 10.3x7.5mm, Pitch 1.27mm, IPC High Density)
footprint ADI-RW-16_M (SOIC, 16-Leads, Body 10.3x7.5mm, Pitch 1.27mm, IPC Low Density)
part A pins: 1 OUT A (out), 2 -IN A (in), 3 +IN A (in)
part B pins: 5 +IN B (in), 6 -IN B (in), 7 OUT B (out)
part C pins: 10 OUT C (out), 11 -IN C (in), 12 +IN C (in)
part D pins: 14 +IN D (in), 15 -IN D (in), 16 OUT D (out)
part E pins: 4 +V (power), 8 NC, 9 NC, 13 -V (power)

## OP491GRUZ-REEL
designator U?
Quad Channel Rail-to-Rail Operational Amplifier, 3 MHz BW, 500 mV/us SR, Industrial, 14-pin SOP (RU-14), Reel; Generic Part Number: OP491; Manufacturer: Analog Devices; PartNumber: OP491GRUZ-REEL; Amplifiers Per Package: 4; Input Bias Current: 30nA; Input Offset Voltage: 80uV; Iq/Amp: 200uA; Small Signal Bandwidth: 3MHz; V Span Max: 12V; V Span Min: 2.7V; DatasheetVersion: Rev. E; PackageReference: RU-14; PackageDescription: 14-Pin Thin Shrink Small Outline Package, Body 5 x 4.4 mm, Pitch 0.65 mm; Supplier 1: Digi-Key; Supplier Part Number 1: OP491GRUZ-REELTR-ND; Supplier 2: Digi-Key; Supplier Part Number 2: OP491GRUZ-REELCT-ND; Supplier 3: Digi-Key; Supplier Part Number 3: OP491GRUZ-REELDKR-ND; Supplier 4: Newark; Supplier Part Number 4: 67W2761; Supplier 5: Newark; Supplier Part Number 5: 59K8945; Slew Rate: 500mV/us; Mounting Technology: Surface Mount; Code_JEDEC: MO-153AB-1; ComponentLink1Description: Manufacturer URL; ComponentLink1URL: http://www.analog.com/en/index.html; ComponentLink2Description: Datasheet; ComponentLink2URL: http://www.analog.com/static/imported-files/data_sheets/OP191_291_491.pdf; ComponentLink3Description: Package Specification; ComponentLink3URL: http://www.analog.com/static/imported-files/packages/36057385283879153717235186773RU14.pdf
footprint ADI-RU-14_N (SOP, 14-Leads, Body 5x4.4mm, Pitch 0.65mm, IPC Medium Density)
footprint ADI-RU-14_L (SOP, 14-Leads, Body 5x4.4mm, Pitch 0.65mm, IPC High Density)
footprint ADI-RU-14_M (SOP, 14-Leads, Body 5x4.4mm, Pitch 0.65mm, IPC Low Density)
pins on every part: 4 +V (power), 11 -V (power)
part A pins: 1 OUT A (out), 2 -IN A (in), 3 +IN A (in)
part B pins: 5 +IN B (in), 6 -IN B (in), 7 OUT B (out)
part C pins: 8 OUT C (out), 9 -IN C (in), 10 +IN C (in)
part D pins: 12 +IN D (in), 13 -IN D (in), 14 OUT D (out)

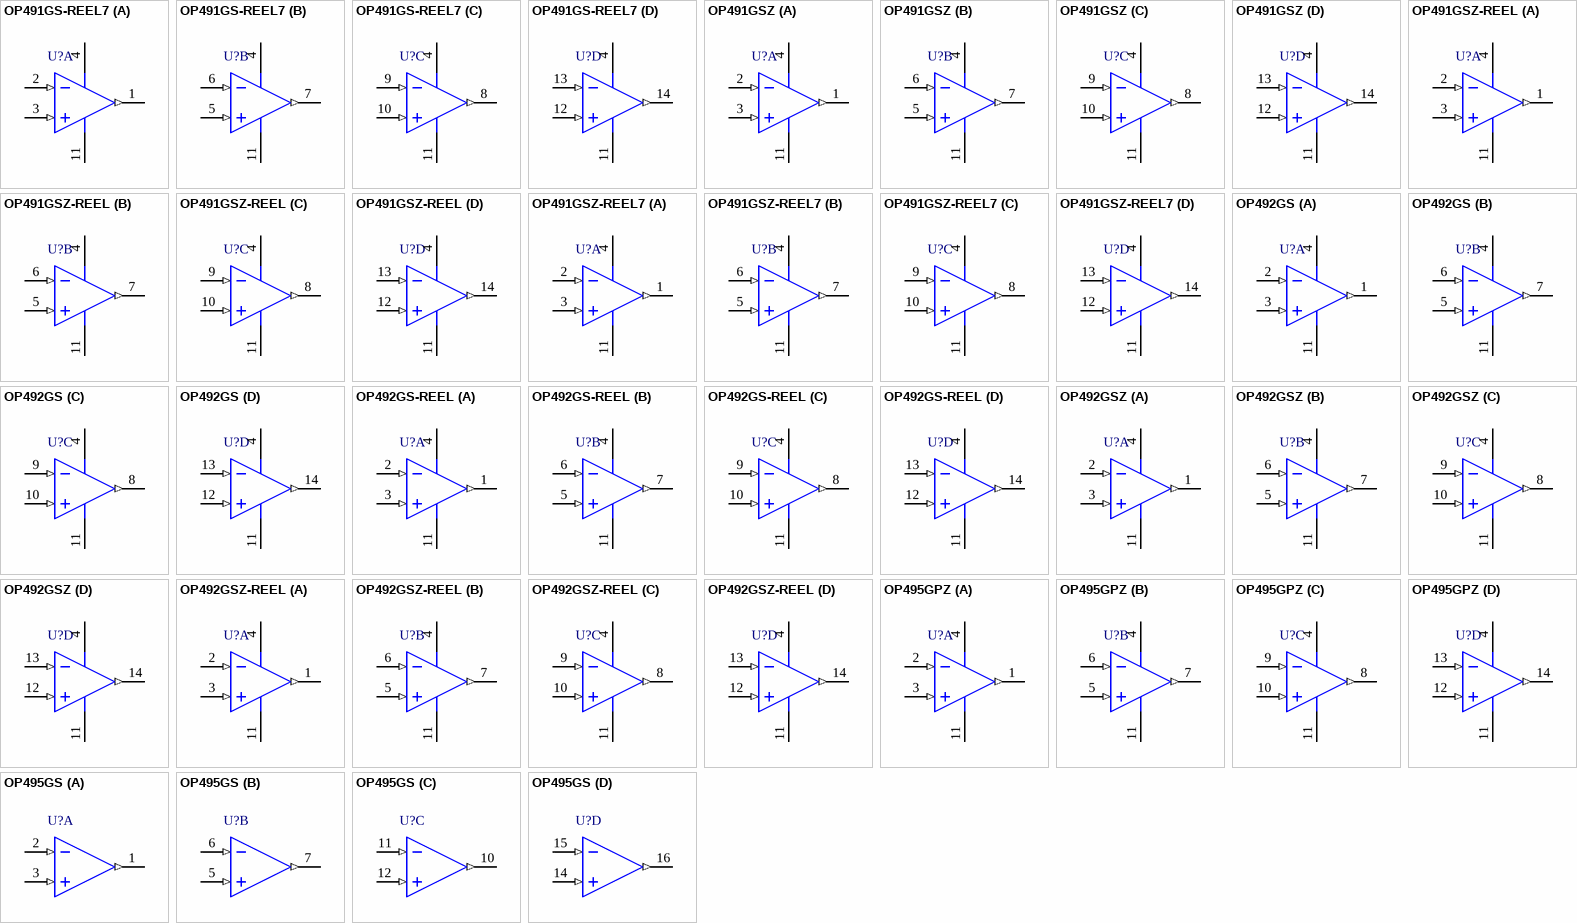
[diagram p108: symbols OP491GS-REEL7 to OP495GS]

## OP491GS-REEL7
designator U?
Quad Channel Rail-to-Rail Operational Amplifier, 3 MHz BW, 500 mV/us SR, Industrial, 14-pin SOIC (R-14), Reel; Generic Part Number: OP491; Manufacturer: Analog Devices; PartNumber: OP491GS-REEL7; Amplifiers Per Package: 4; Input Bias Current: 30nA; Input Offset Voltage: 80uV; Iq/Amp: 200uA; Small Signal Bandwidth: 3MHz; V Span Max: 12V; V Span Min: 2.7V; DatasheetVersion: Rev. E; PackageVersion: 060606-A; PackageReference: R-14; PackageDescription: 14-Pin Standard Small Outline Package, Body 8.65 x 3.9 mm, Pitch 1.27 mm; Supplier 1: Digi-Key; Supplier Part Number 1: OP491GS-REEL7-ND; Slew Rate: 500mV/us; Mounting Technology: Surface Mount; Code_JEDEC: MS-012-AB; ComponentLink1Description: Manufacturer URL; ComponentLink1URL: http://www.analog.com/en/index.html; ComponentLink2Description: Datasheet; ComponentLink2URL: http://www.analog.com/static/imported-files/data_sheets/OP191_291_491.pdf; ComponentLink3Description: Package Specification; ComponentLink3URL: http://www.analog.com/static/imported-files/packages/PKG_PDF/SOIC_Narrow%20(R)/R_14.pdf
footprint ADI-R-14_N (SOIC, 14-Leads, Body 8.65x3.9mm, Pitch 1.27mm, IPC Medium Density)
footprint ADI-R-14_L (SOIC, 14-Leads, Body 8.65x3.9mm, Pitch 1.27mm, IPC High Density)
footprint ADI-R-14_M (SOIC, 14-Leads, Body 8.65x3.9mm, Pitch 1.27mm, IPC Low Density)
pins on every part: 4 +V (power), 11 -V (power)
part A pins: 1 OUT A (out), 2 -IN A (in), 3 +IN A (in)
part B pins: 5 +IN B (in), 6 -IN B (in), 7 OUT B (out)
part C pins: 8 OUT C (out), 9 -IN C (in), 10 +IN C (in)
part D pins: 12 +IN D (in), 13 -IN D (in), 14 OUT D (out)

## OP491GSZ
designator U?
Quad Channel Rail-to-Rail Operational Amplifier, 3 MHz BW, 500 mV/us SR, Industrial, 14-pin SOIC (R-14), Tube; Generic Part Number: OP491; Manufacturer: Analog Devices; PartNumber: OP491GSZ; Amplifiers Per Package: 4; Input Bias Current: 30nA; Input Offset Voltage: 80uV; Iq/Amp: 200uA; Small Signal Bandwidth: 3MHz; V Span Max: 12V; V Span Min: 2.7V; DatasheetVersion: Rev. E; PackageVersion: 060606-A; PackageReference: R-14; PackageDescription: 14-Pin Standard Small Outline Package, Body 8.65 x 3.9 mm, Pitch 1.27 mm; Supplier 1: Digi-Key; Supplier Part Number 1: OP491GSZ-ND; Supplier 2: Newark; Supplier Part Number 2: 88H0674; Slew Rate: 500mV/us; Mounting Technology: Surface Mount; Code_JEDEC: MS-012-AB; ComponentLink1Description: Manufacturer URL; ComponentLink1URL: http://www.analog.com/en/index.html; ComponentLink2Description: Datasheet; ComponentLink2URL: http://www.analog.com/static/imported-files/data_sheets/OP191_291_491.pdf; ComponentLink3Description: Package Specification; ComponentLink3URL: http://www.analog.com/static/imported-files/packages/PKG_PDF/SOIC_Narrow%20(R)/R_14.pdf
footprint ADI-R-14_N (SOIC, 14-Leads, Body 8.65x3.9mm, Pitch 1.27mm, IPC Medium Density)
footprint ADI-R-14_L (SOIC, 14-Leads, Body 8.65x3.9mm, Pitch 1.27mm, IPC High Density)
footprint ADI-R-14_M (SOIC, 14-Leads, Body 8.65x3.9mm, Pitch 1.27mm, IPC Low Density)
pins on every part: 4 +V (power), 11 -V (power)
part A pins: 1 OUT A (out), 2 -IN A (in), 3 +IN A (in)
part B pins: 5 +IN B (in), 6 -IN B (in), 7 OUT B (out)
part C pins: 8 OUT C (out), 9 -IN C (in), 10 +IN C (in)
part D pins: 12 +IN D (in), 13 -IN D (in), 14 OUT D (out)

## OP491GSZ-REEL
designator U?
Quad Channel Rail-to-Rail Operational Amplifier, 3 MHz BW, 500 mV/us SR, Industrial, 14-pin SOIC (R-14), Reel; Generic Part Number: OP491; Manufacturer: Analog Devices; PartNumber: OP491GSZ-REEL; Amplifiers Per Package: 4; Input Bias Current: 30nA; Input Offset Voltage: 80uV; Iq/Amp: 200uA; Small Signal Bandwidth: 3MHz; V Span Max: 12V; V Span Min: 2.7V; DatasheetVersion: Rev. E; PackageVersion: 060606-A; PackageReference: R-14; PackageDescription: 14-Pin Standard Small Outline Package, Body 8.65 x 3.9 mm, Pitch 1.27 mm; Supplier 1: Digi-Key; Supplier Part Number 1: OP491GSZ-REEL-ND; Supplier 2: Newark; Supplier Part Number 2: 88H0675; Slew Rate: 500mV/us; Mounting Technology: Surface Mount; Code_JEDEC: MS-012-AB; ComponentLink1Description: Manufacturer URL; ComponentLink1URL: http://www.analog.com/en/index.html; ComponentLink2Description: Datasheet; ComponentLink2URL: http://www.analog.com/static/imported-files/data_sheets/OP191_291_491.pdf; ComponentLink3Description: Package Specification; ComponentLink3URL: http://www.analog.com/static/imported-files/packages/PKG_PDF/SOIC_Narrow%20(R)/R_14.pdf
footprint ADI-R-14_N (SOIC, 14-Leads, Body 8.65x3.9mm, Pitch 1.27mm, IPC Medium Density)
footprint ADI-R-14_L (SOIC, 14-Leads, Body 8.65x3.9mm, Pitch 1.27mm, IPC High Density)
footprint ADI-R-14_M (SOIC, 14-Leads, Body 8.65x3.9mm, Pitch 1.27mm, IPC Low Density)
pins on every part: 4 +V (power), 11 -V (power)
part A pins: 1 OUT A (out), 2 -IN A (in), 3 +IN A (in)
part B pins: 5 +IN B (in), 6 -IN B (in), 7 OUT B (out)
part C pins: 8 OUT C (out), 9 -IN C (in), 10 +IN C (in)
part D pins: 12 +IN D (in), 13 -IN D (in), 14 OUT D (out)

## OP491GSZ-REEL7
designator U?
Quad Channel Rail-to-Rail Operational Amplifier, 3 MHz BW, 500 mV/us SR, Industrial, 14-pin SOIC (R-14), Reel; Generic Part Number: OP491; Manufacturer: Analog Devices; PartNumber: OP491GSZ-REEL7; Amplifiers Per Package: 4; Input Bias Current: 30nA; Input Offset Voltage: 80uV; Iq/Amp: 200uA; Small Signal Bandwidth: 3MHz; V Span Max: 12V; V Span Min: 2.7V; DatasheetVersion: Rev. E; PackageVersion: 060606-A; PackageReference: R-14; PackageDescription: 14-Pin Standard Small Outline Package, Body 8.65 x 3.9 mm, Pitch 1.27 mm; Supplier 1: Digi-Key; Supplier Part Number 1: OP491GSZ-REEL7TR-ND; Supplier 2: Digi-Key; Supplier Part Number 2: OP491GSZ-REEL7CT-ND; Supplier 3: Digi-Key; Supplier Part Number 3: OP491GSZ-REEL7DKR-ND; Slew Rate: 500mV/us; Mounting Technology: Surface Mount; Code_JEDEC: MS-012-AB; ComponentLink1Description: Manufacturer URL; ComponentLink1URL: http://www.analog.com/en/index.html; ComponentLink2Description: Datasheet; ComponentLink2URL: http://www.analog.com/static/imported-files/data_sheets/OP191_291_491.pdf; ComponentLink3Description: Package Specification; ComponentLink3URL: http://www.analog.com/static/imported-files/packages/PKG_PDF/SOIC_Narrow%20(R)/R_14.pdf
footprint ADI-R-14_N (SOIC, 14-Leads, Body 8.65x3.9mm, Pitch 1.27mm, IPC Medium Density)
footprint ADI-R-14_L (SOIC, 14-Leads, Body 8.65x3.9mm, Pitch 1.27mm, IPC High Density)
footprint ADI-R-14_M (SOIC, 14-Leads, Body 8.65x3.9mm, Pitch 1.27mm, IPC Low Density)
pins on every part: 4 +V (power), 11 -V (power)
part A pins: 1 OUT A (out), 2 -IN A (in), 3 +IN A (in)
part B pins: 5 +IN B (in), 6 -IN B (in), 7 OUT B (out)
part C pins: 8 OUT C (out), 9 -IN C (in), 10 +IN C (in)
part D pins: 12 +IN D (in), 13 -IN D (in), 14 OUT D (out)

## OP492GS
designator U?
Quad Channel Single-Supply Operation Operational Amplifier, 4 MHz BW, 4 V/us SR, Industrial, 14-pin SOIC (R-14), Tube; Generic Part Number: OP492; Manufacturer: Analog Devices; PartNumber: OP492GS; Amplifiers Per Package: 4; Input Bias Current: 375nA; Input Offset Voltage: 1.4mV; Iq/Amp: 1.4mA; Slew Rate: 4V/us; Small Signal Bandwidth: 4MHz; V Span Max: 33V; V Span Min: 4.5V; DatasheetVersion: Rev. C; PackageVersion: 060606-A; PackageReference: R-14; PackageDescription: 14-Pin Standard Small Outline Package, Body 8.65 x 3.9 mm, Pitch 1.27 mm; Supplier 1: Digi-Key; Supplier Part Number 1: OP492GS-ND; Mounting Technology: Surface Mount; Code_JEDEC: MS-012-AB; ComponentLink1Description: Manufacturer URL; ComponentLink1URL: http://www.analog.com/en/index.html; ComponentLink2Description: Datasheet; ComponentLink2URL: http://www.analog.com/static/imported-files/data_sheets/OP292_492.pdf; ComponentLink3Description: Package Specification; ComponentLink3URL: http://www.analog.com/static/imported-files/packages/PKG_PDF/SOIC_Narrow%20(R)/R_14.pdf
footprint ADI-R-14_N (SOIC, 14-Leads, Body 8.65x3.9mm, Pitch 1.27mm, IPC Medium Density)
footprint ADI-R-14_L (SOIC, 14-Leads, Body 8.65x3.9mm, Pitch 1.27mm, IPC High Density)
footprint ADI-R-14_M (SOIC, 14-Leads, Body 8.65x3.9mm, Pitch 1.27mm, IPC Low Density)
pins on every part: 4 +V (power), 11 -V (power)
part A pins: 1 OUT A (out), 2 -IN A (in), 3 +IN A (in)
part B pins: 5 +IN B (in), 6 -IN B (in), 7 OUT B (out)
part C pins: 8 OUT C (out), 9 -IN C (in), 10 +IN C (in)
part D pins: 12 +IN D (in), 13 -IN D (in), 14 OUT D (out)

## OP492GS-REEL
designator U?
Quad Channel Single-Supply Operation Operational Amplifier, 4 MHz BW, 4 V/us SR, Industrial, 14-pin SOIC (R-14), Reel; Generic Part Number: OP492; Manufacturer: Analog Devices; PartNumber: OP492GS-REEL; Amplifiers Per Package: 4; Input Bias Current: 375nA; Input Offset Voltage: 1.4mV; Iq/Amp: 1.4mA; Slew Rate: 4V/us; Small Signal Bandwidth: 4MHz; V Span Max: 33V; V Span Min: 4.5V; DatasheetVersion: Rev. C; PackageVersion: 060606-A; PackageReference: R-14; PackageDescription: 14-Pin Standard Small Outline Package, Body 8.65 x 3.9 mm, Pitch 1.27 mm; Supplier 1: Digi-Key; Supplier Part Number 1: OP492GS-REEL-ND; Supplier 2: Newark; Supplier Part Number 2: 13B4676; Mounting Technology: Surface Mount; Code_JEDEC: MS-012-AB; ComponentLink1Description: Manufacturer URL; ComponentLink1URL: http://www.analog.com/en/index.html; ComponentLink2Description: Datasheet; ComponentLink2URL: http://www.analog.com/static/imported-files/data_sheets/OP292_492.pdf; ComponentLink3Description: Package Specification; ComponentLink3URL: http://www.analog.com/static/imported-files/packages/PKG_PDF/SOIC_Narrow%20(R)/R_14.pdf
footprint ADI-R-14_N (SOIC, 14-Leads, Body 8.65x3.9mm, Pitch 1.27mm, IPC Medium Density)
footprint ADI-R-14_L (SOIC, 14-Leads, Body 8.65x3.9mm, Pitch 1.27mm, IPC High Density)
footprint ADI-R-14_M (SOIC, 14-Leads, Body 8.65x3.9mm, Pitch 1.27mm, IPC Low Density)
pins on every part: 4 +V (power), 11 -V (power)
part A pins: 1 OUT A (out), 2 -IN A (in), 3 +IN A (in)
part B pins: 5 +IN B (in), 6 -IN B (in), 7 OUT B (out)
part C pins: 8 OUT C (out), 9 -IN C (in), 10 +IN C (in)
part D pins: 12 +IN D (in), 13 -IN D (in), 14 OUT D (out)

## OP492GSZ
designator U?
Quad Channel Single-Supply Operation Operational Amplifier, 4 MHz BW, 4 V/us SR, Industrial, 14-pin SOIC (R-14), Tube; Generic Part Number: OP492; Manufacturer: Analog Devices; PartNumber: OP492GSZ; Amplifiers Per Package: 4; Input Bias Current: 375nA; Input Offset Voltage: 1.4mV; Iq/Amp: 1.4mA; Slew Rate: 4V/us; Small Signal Bandwidth: 4MHz; V Span Max: 33V; V Span Min: 4.5V; DatasheetVersion: Rev. C; PackageVersion: 060606-A; PackageReference: R-14; PackageDescription: 14-Pin Standard Small Outline Package, Body 8.65 x 3.9 mm, Pitch 1.27 mm; Supplier 1: Digi-Key; Supplier Part Number 1: OP492GSZ-ND; Supplier 2: Farnell; Supplier Part Number 2: 1424649; Supplier 3: Newark; Supplier Part Number 3: 88H0677; Mounting Technology: Surface Mount; Code_JEDEC: MS-012-AB; ComponentLink1Description: Manufacturer URL; ComponentLink1URL: http://www.analog.com/en/index.html; ComponentLink2Description: Datasheet; ComponentLink2URL: http://www.analog.com/static/imported-files/data_sheets/OP292_492.pdf; ComponentLink3Description: Package Specification; ComponentLink3URL: http://www.analog.com/static/imported-files/packages/PKG_PDF/SOIC_Narrow%20(R)/R_14.pdf
footprint ADI-R-14_N (SOIC, 14-Leads, Body 8.65x3.9mm, Pitch 1.27mm, IPC Medium Density)
footprint ADI-R-14_L (SOIC, 14-Leads, Body 8.65x3.9mm, Pitch 1.27mm, IPC High Density)
footprint ADI-R-14_M (SOIC, 14-Leads, Body 8.65x3.9mm, Pitch 1.27mm, IPC Low Density)
pins on every part: 4 +V (power), 11 -V (power)
part A pins: 1 OUT A (out), 2 -IN A (in), 3 +IN A (in)
part B pins: 5 +IN B (in), 6 -IN B (in), 7 OUT B (out)
part C pins: 8 OUT C (out), 9 -IN C (in), 10 +IN C (in)
part D pins: 12 +IN D (in), 13 -IN D (in), 14 OUT D (out)